# Altium schematic symbol library fpga.SchLib: 19 symbols (part 2 of 2)
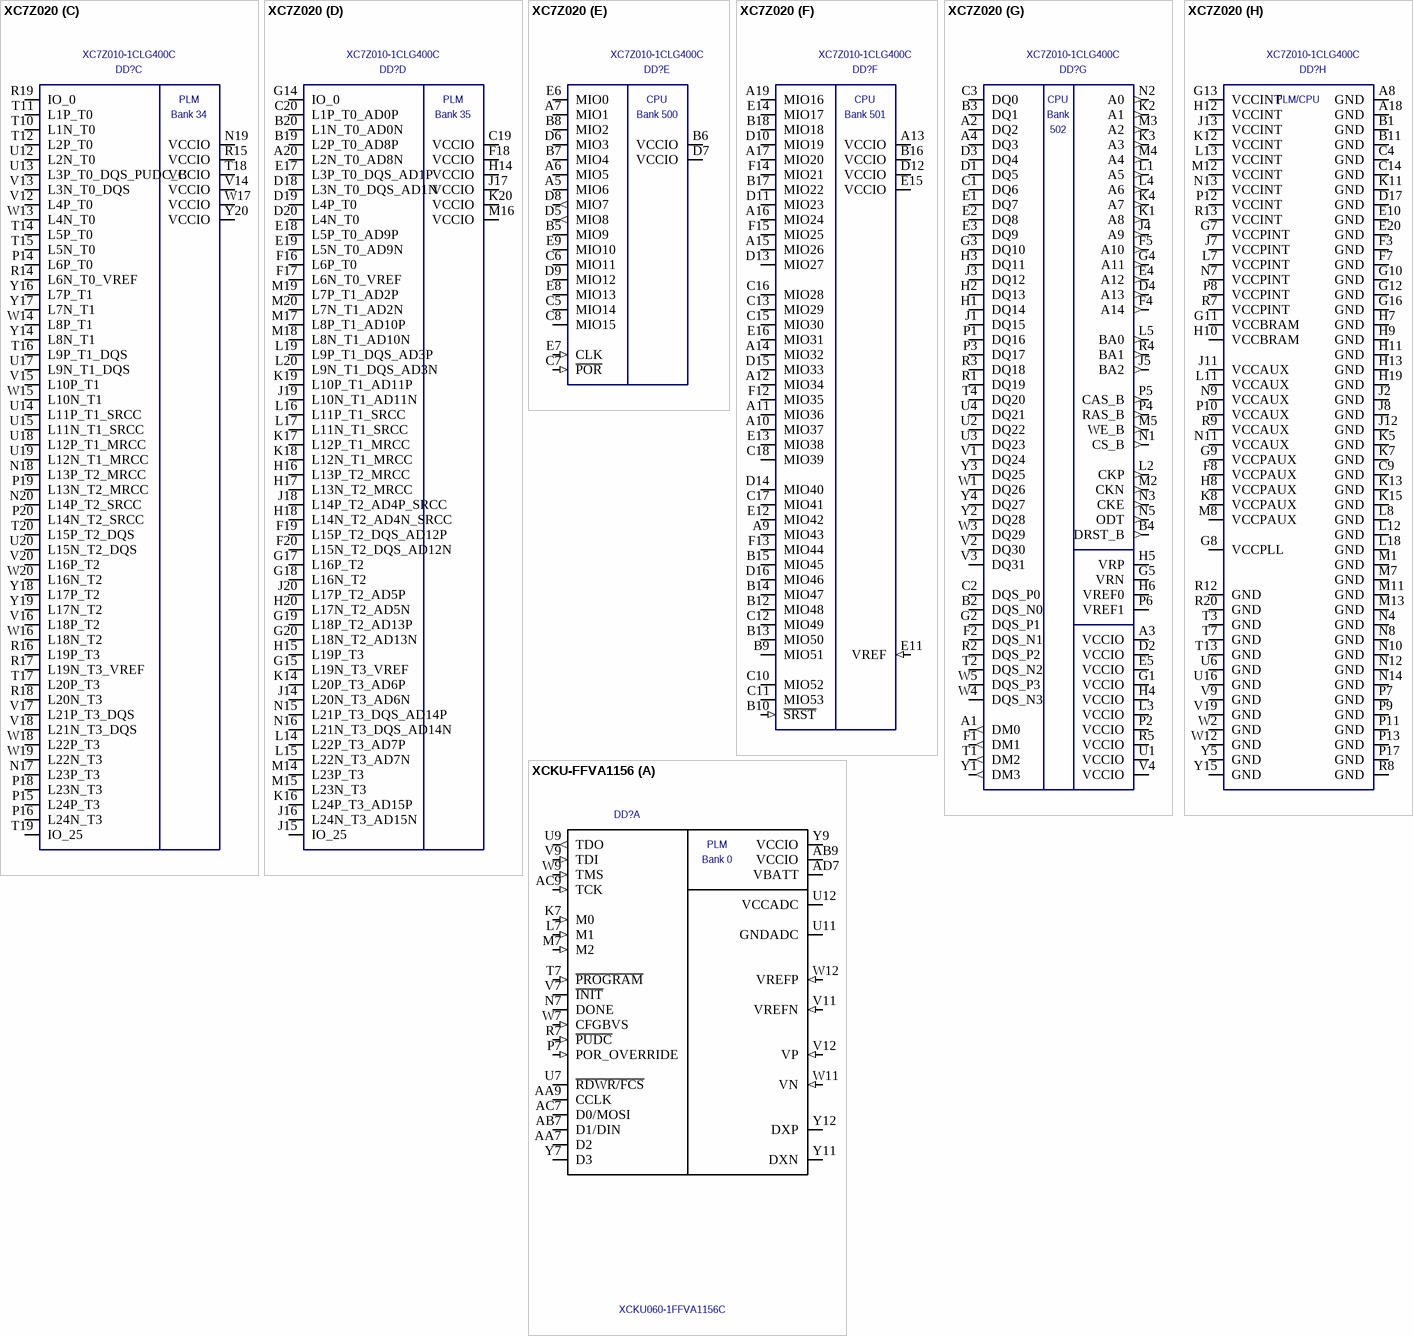
[diagram p10: symbols XC7Z020 to XCKU-FFVA1156]

## XC7Z020
designator DD?, comment XC7Z010-1CLG400C
Zync 7 SoC; Value: XC7Z010-1CLG400C
footprint UBGA-400 (0,8mm pitch)
part A pins: F6 TDO (out) "JTAG", F9 TCK (in) "JTAG", F10 RSVDGND (in) "TEST", F11 VCCBATT (power) "Backup power", G6 TDI (in) "JTAG", J6 TMS (in) "JTAG", J9 VCCADC (power) "ADC power", J10 GNDADC (power) "ADC power", K6 VCCIO (power) "CONFIG", K9 VP (in) "ADC input", K10 VREFN (in) "ADC reference", L6 ~{PROGRAM} (in) "CONFIG", L9 VREFP (in) "ADC reference", L10 VN (in) "ADC input", M6 CFGBVS (in) "CONFIG", M9 DXP "Temperature diode anode", M10 DXN "Temperature diode cathode", N6 RSVDVCC3 (in) "TEST", R6 RSVDVCC2 (in) "TEST", R10 ~{INIT} (io) "CONFIG", R11 DONE (io) "CONFIG", T6 RSVDVCC1 (in) "TEST"
part B pins: T5 L19P_T3 (io) "PL bank 13 is n/a for 7Z010 and 007", T8 VCCIO (power) "PL bank 13", T9 L12P_T1_MRCC (io) "PL bank 13 is n/a for 7Z010 and 007", U5 L19N_T3_VREF (io) "PL bank 13 is n/a for 7Z010 and 007", U7 L11P_T1_SRCC (io) "PL bank 13 is n/a for 7Z010 and 007", U8 L17N_T2 (io) "PL bank 13 is n/a for 7Z010 and 007", U9 L17P_T2 (io) "PL bank 13 is n/a for 7Z010 and 007", U10 L12N_T1_MRCC (io) "PL bank 13 is n/a for 7Z010 and 007", U11 VCCIO (power) "PL bank 13", V5 L6N_T0_VREF (io) "PL bank 13 is n/a for 7Z010 and 007", V6 L22P_T3 (io) "PL bank 13 is n/a for 7Z010 and 007", V7 L11N_T1_SRCC (io) "PL bank 13 is n/a for 7Z010 and 007", V8 L15P_T2_DQS (io) "PL bank 13 is n/a for 7Z010 and 007", V10 L21N_T3_DQS (io) "PL bank 13 is n/a for 7Z010 and 007", V11 L21P_T3_DQS (io) "PL bank 13 is n/a for 7Z010 and 007", W6 L22N_T3 (io) "PL bank 13 is n/a for 7Z010 and 007", W7 VCCIO (power) "PL bank 13", W8 L15N_T2_DQS (io) "PL bank 13 is n/a for 7Z010 and 007", W9 L16N_T2 (io) "PL bank 13 is n/a for 7Z010 and 007", W10 L16P_T2 (io) "PL bank 13 is n/a for 7Z010 and 007", W11 L18P_T2 (io) "PL bank 13 is n/a for 7Z010 and 007", Y6 L13N_T2_MRCC (io) "PL bank 13 is n/a for 7Z010 and 007", Y7 L13P_T2_MRCC (io) "PL bank 13 is n/a for 7Z010 and 007", Y8 L14N_T2_SRCC (io) "PL bank 13 is n/a for 7Z010 and 007", Y9 L14P_T2_SRCC (io) "PL bank 13 is n/a for 7Z010 and 007", Y10 VCCIO (power) "PL bank 13", Y11 L18N_T2 (io) "PL bank 13 is n/a for 7Z010 and 007", Y12 L20P_T3 (io) "PL bank 13 is n/a for 7Z010 and 007", Y13 L20N_T3 (io) "PL bank 13 is n/a for 7Z010 and 007"
part C pins: N17 L23P_T3 (io) "PL bank 34", N18 L13P_T2_MRCC (io) "PL bank 34", N19 VCCIO (power) "PL bank 34", N20 L14P_T2_SRCC (io) "PL bank 34", P14 L6P_T0 (io) "PL bank 34", P15 L24P_T3 (io) "PL bank 34", P16 L24N_T3 (io) "PL bank 34", P18 L23N_T3 (io) "PL bank 34", P19 L13N_T2_MRCC (io) "PL bank 34", P20 L14N_T2_SRCC (io) "PL bank 34", R14 L6N_T0_VREF (io) "PL bank 34", R15 VCCIO (power) "PL bank 34", R16 L19P_T3 (io) "PL bank 34", R17 L19N_T3_VREF (io) "PL bank 34", R18 L20N_T3 (io) "PL bank 34", R19 IO_0 (io) "PL bank 34", T10 L1N_T0 (io) "PL bank 34", T11 L1P_T0 (io) "PL bank 34", T12 L2P_T0 (io) "PL bank 34", T14 L5P_T0 (io) "PL bank 34", T15 L5N_T0 (io) "PL bank 34", T16 L9P_T1_DQS (io) "PL bank 34", T17 L20P_T3 (io) "PL bank 34", T18 VCCIO (power) "PL bank 34", T19 IO_25 (io) "PL bank 34", T20 L15P_T2_DQS (io) "PL bank 34", U12 L2N_T0 (io) "PL bank 34", U13 L3P_T0_DQS_PUDC_B (io) "PL bank 34", U14 L11P_T1_SRCC (io) "PL bank 34", U15 L11N_T1_SRCC (io) "PL bank 34", U17 L9N_T1_DQS (io) "PL bank 34", U18 L12P_T1_MRCC (io) "PL bank 34", U19 L12N_T1_MRCC (io) "PL bank 34", U20 L15N_T2_DQS (io) "PL bank 34", V12 L4P_T0 (io) "PL bank 34", V13 L3N_T0_DQS (io) "PL bank 34", V14 VCCIO (power) "PL bank 34", V15 L10P_T1 (io) "PL bank 34", V16 L18P_T2 (io) "PL bank 34", V17 L21P_T3_DQS (io) "PL bank 34", V18 L21N_T3_DQS (io) "PL bank 34", V20 L16P_T2 (io) "PL bank 34", W13 L4N_T0 (io) "PL bank 34", W14 L8P_T1 (io) "PL bank 34", W15 L10N_T1 (io) "PL bank 34", W16 L18N_T2 (io) "PL bank 34", W17 VCCIO (power) "PL bank 34", W18 L22P_T3 (io) "PL bank 34", W19 L22N_T3 (io) "PL bank 34", W20 L16N_T2 (io) "PL bank 34", Y14 L8N_T1 (io) "PL bank 34", Y16 L7P_T1 (io) "PL bank 34", Y17 L7N_T1 (io) "PL bank 34", Y18 L17P_T2 (io) "PL bank 34", Y19 L17N_T2 (io) "PL bank 34", Y20 VCCIO (power) "PL bank 34"
part D pins: A20 L2N_T0_AD8N (io) "PL bank 35", B19 L2P_T0_AD8P (io) "PL bank 35", B20 L1N_T0_AD0N (io) "PL bank 35", C19 VCCIO (power) "PL bank 35", C20 L1P_T0_AD0P (io) "PL bank 35", D18 L3N_T0_DQS_AD1N (io) "PL bank 35", D19 L4P_T0 (io) "PL bank 35", D20 L4N_T0 (io) "PL bank 35", E17 L3P_T0_DQS_AD1P (io) "PL bank 35", E18 L5P_T0_AD9P (io) "PL bank 35", E19 L5N_T0_AD9N (io) "PL bank 35", F16 L6P_T0 (io) "PL bank 35", F17 L6N_T0_VREF (io) "PL bank 35", F18 VCCIO (power) "PL bank 35", F19 L15P_T2_DQS_AD12P (io) "PL bank 35", F20 L15N_T2_DQS_AD12N (io) "PL bank 35", G14 IO_0 (io) "PL bank 35", G15 L19N_T3_VREF (io) "PL bank 35", G17 L16P_T2 (io) "PL bank 35", G18 L16N_T2 (io) "PL bank 35", G19 L18P_T2_AD13P (io) "PL bank 35", G20 L18N_T2_AD13N (io) "PL bank 35", H14 VCCIO (power) "PL bank 35", H15 L19P_T3 (io) "PL bank 35", H16 L13P_T2_MRCC (io) "PL bank 35", H17 L13N_T2_MRCC (io) "PL bank 35", H18 L14N_T2_AD4N_SRCC (io) "PL bank 35", H20 L17N_T2_AD5N (io) "PL bank 35", J14 L20N_T3_AD6N (io) "PL bank 35", J15 IO_25 (io) "PL bank 35", J16 L24N_T3_AD15N (io) "PL bank 35", J17 VCCIO (power) "PL bank 35", J18 L14P_T2_AD4P_SRCC (io) "PL bank 35", J19 L10N_T1_AD11N (io) "PL bank 35", J20 L17P_T2_AD5P (io) "PL bank 35", K14 L20P_T3_AD6P (io) "PL bank 35", K16 L24P_T3_AD15P (io) "PL bank 35", K17 L12P_T1_MRCC (io) "PL bank 35", K18 L12N_T1_MRCC (io) "PL bank 35", K19 L10P_T1_AD11P (io) "PL bank 35", K20 VCCIO (power) "PL bank 35", L14 L22P_T3_AD7P (io) "PL bank 35", L15 L22N_T3_AD7N (io) "PL bank 35", L16 L11P_T1_SRCC (io) "PL bank 35", L17 L11N_T1_SRCC (io) "PL bank 35", L19 L9P_T1_DQS_AD3P (io) "PL bank 35", L20 L9N_T1_DQS_AD3N (io) "PL bank 35", M14 L23P_T3 (io) "PL bank 35", M15 L23N_T3 (io) "PL bank 35", M16 VCCIO (power) "PL bank 35", M17 L8P_T1_AD10P (io) "PL bank 35", M18 L8N_T1_AD10N (io) "PL bank 35", M19 L7P_T1_AD2P (io) "PL bank 35", M20 L7N_T1_AD2N (io) "PL bank 35", N15 L21P_T3_DQS_AD14P (io) "PL bank 35", N16 L21N_T3_DQS_AD14N (io) "PL bank 35"
part E pins: A5 MIO6 (io) "PS bank 500", A6 MIO5 (io) "PS bank 500", A7 MIO1 (io) "PS bank 500", B5 MIO9 (io) "PS bank 500", B6 VCCIO (power) "PS bank 500", B7 MIO4 (io) "PS bank 500", B8 MIO2 (io) "PS bank 500", C5 MIO14 (io) "PS bank 500", C6 MIO11 (io) "PS bank 500", C7 ~{POR} (in) "PS bank 500", C8 MIO15 (io) "PS bank 500", D5 MIO8 (out) "PS bank 500", D6 MIO3 (io) "PS bank 500", D7 VCCIO (power) "PS bank 500", D8 MIO7 (out) "PS bank 500", D9 MIO12 (io) "PS bank 500", E6 MIO0 (io) "PS bank 500", E7 CLK (in) "PS bank 500", E8 MIO13 (io) "PS bank 500", E9 MIO10 (io) "PS bank 500"
part F pins: A9 MIO43 (io) "PS bank 501", A10 MIO37 (io) "PS bank 501", A11 MIO36 (io) "PS bank 501", A12 MIO34 (io) "PS bank 501", A13 VCCIO (power) "PS bank 501", A14 MIO32 (io) "PS bank 501", A15 MIO26 (io) "PS bank 501", A16 MIO24 (io) "PS bank 501", A17 MIO20 (io) "PS bank 501", A19 MIO16 (io) "PS bank 501", B9 MIO51 (io) "PS bank 501", B10 ~{SRST} (in) "PS bank 501", B12 MIO48 (io) "PS bank 501", B13 MIO50 (io) "PS bank 501", B14 MIO47 (io) "PS bank 501", B15 MIO45 (io) "PS bank 501", B16 VCCIO (power) "PS bank 501", B17 MIO22 (io) "PS bank 501", B18 MIO18 (io) "PS bank 501", C10 MIO52 (io) "PS bank 501", C11 MIO53 (io) "PS bank 501", C12 MIO49 (io) "PS bank 501", C13 MIO29 (io) "PS bank 501", C15 MIO30 (io) "PS bank 501", C16 MIO28 (io) "PS bank 501", C17 MIO41 (io) "PS bank 501", C18 MIO39 (io) "PS bank 501", D10 MIO19 (io) "PS bank 501", D11 MIO23 (io) "PS bank 501", D12 VCCIO (power) "PS bank 501", D13 MIO27 (io) "PS bank 501", D14 MIO40 (io) "PS bank 501", D15 MIO33 (io) "PS bank 501", D16 MIO46 (io) "PS bank 501", E11 VREF (in) "PS bank 501", E12 MIO42 (io) "PS bank 501", E13 MIO38 (io) "PS bank 501", E14 MIO17 (io) "PS bank 501", E15 VCCIO (power) "PS bank 501", E16 MIO31 (io) "PS bank 501", F12 MIO35 (io) "PS bank 501", F13 MIO44 (io) "PS bank 501", F14 MIO21 (io) "PS bank 501", F15 MIO25 (io) "PS bank 501"
part G pins: A1 DM0 (out) "PS bank 502", A2 DQ2 (io) "PS bank 502", A3 VCCIO (power) "PS bank 502", A4 DQ3 (io) "PS bank 502", B2 DQS_N0 (io) "PS bank 502", B3 DQ1 (io) "PS bank 502", B4 DRST_B (out) "PS bank 502", C1 DQ6 (io) "PS bank 502", C2 DQS_P0 (io) "PS bank 502", C3 DQ0 (io) "PS bank 502", D1 DQ5 (io) "PS bank 502", D2 VCCIO (power) "PS bank 502", D3 DQ4 (io) "PS bank 502", D4 A13 (out) "PS bank 502", E1 DQ7 (io) "PS bank 502", E2 DQ8 (io) "PS bank 502", E3 DQ9 (io) "PS bank 502", E4 A12 (out) "PS bank 502", E5 VCCIO (power) "PS bank 502", F1 DM1 (out) "PS bank 502", F2 DQS_N1 (io) "PS bank 502", F4 A14 (out) "PS bank 502", F5 A10 (out) "PS bank 502", G1 VCCIO (power) "PS bank 502", G2 DQS_P1 (io) "PS bank 502", G3 DQ10 (io) "PS bank 502", G4 A11 (out) "PS bank 502", G5 VRN "PS bank 502", H1 DQ14 (io) "PS bank 502", H2 DQ13 (io) "PS bank 502", H3 DQ11 (io) "PS bank 502", H4 VCCIO (power) "PS bank 502", H5 VRP "PS bank 502", H6 VREF0 "PS bank 502", J1 DQ15 (io) "PS bank 502", J3 DQ12 (io) "PS bank 502", J4 A9 (out) "PS bank 502", J5 BA2 (out) "PS bank 502", K1 A8 (out) "PS bank 502", K2 A1 (out) "PS bank 502", K3 A3 (out) "PS bank 502", K4 A7 (out) "PS bank 502", L1 A5 (out) "PS bank 502", L2 CKP (out) "PS bank 502", L3 VCCIO (power) "PS bank 502", L4 A6 (out) "PS bank 502", L5 BA0 (out) "PS bank 502", M2 CKN (out) "PS bank 502", M3 A2 (out) "PS bank 502", M4 A4 (out) "PS bank 502", M5 WE_B (out) "PS bank 502", N1 CS_B (out) "PS bank 502", N2 A0 (out) "PS bank 502", N3 CKE (out) "PS bank 502", N5 ODT (out) "PS bank 502", P1 DQ16 (io) "PS bank 502", P2 VCCIO (power) "PS bank 502", P3 DQ17 (io) "PS bank 502", P4 RAS_B (out) "PS bank 502", P5 CAS_B (out) "PS bank 502", P6 VREF1 "PS bank 502", R1 DQ19 (io) "PS bank 502", R2 DQS_P2 (io) "PS bank 502", R3 DQ18 (io) "PS bank 502", R4 BA1 (out) "PS bank 502", R5 VCCIO (power) "PS bank 502", T1 DM2 (out) "PS bank 502", T2 DQS_N2 (io) "PS bank 502", T4 DQ20 (io) "PS bank 502", U1 VCCIO (power) "PS bank 502", U2 DQ22 (io) "PS bank 502", U3 DQ23 (io) "PS bank 502", U4 DQ21 (io) "PS bank 502", V1 DQ24 (io) "PS bank 502", V2 DQ30 (io) "PS bank 502", V3 DQ31 (io) "PS bank 502", V4 VCCIO (power) "PS bank 502", W1 DQ26 (io) "PS bank 502", W3 DQ29 (io) "PS bank 502", W4 DQS_N3 (io) "PS bank 502", W5 DQS_P3 (io) "PS bank 502", Y1 DM3 (out) "PS bank 502", Y2 DQ28 (io) "PS bank 502", Y3 DQ25 (io) "PS bank 502", Y4 DQ27 (io) "PS bank 502"
part H pins: A8 GND (power) "Digital ground", A18 GND (power) "Digital ground", B1 GND (power) "Digital ground", B11 GND (power) "Digital ground", C4 GND (power) "Digital ground", C9 GND (power) "Digital ground", C14 GND (power) "Digital ground", D17 GND (power) "Digital ground", E10 GND (power) "Digital ground", E20 GND (power) "Digital ground", F3 GND (power) "Digital ground", F7 GND (power) "Digital ground", F8 VCCPAUX (power) "1V8 IO power", G7 VCCPINT (power) "1V0 core power", G8 VCCPLL (power) "1V8 PLL analog power", G9 VCCPAUX (power) "1V8 IO power", G10 GND (power) "Digital ground", G11 VCCBRAM (power) "1V0 core power", G12 GND (power) "Digital ground", G13 VCCINT (power) "1V0 core power", G16 GND (power) "Digital ground", H7 GND (power) "Digital ground", H8 VCCPAUX (power) "1V8 IO power", H9 GND (power) "Digital ground", H10 VCCBRAM (power) "1V0 core power", H11 GND (power) "Digital ground", H12 VCCINT (power) "1V0 core power", H13 GND (power) "Digital ground", H19 GND (power) "Digital ground", J2 GND (power) "Digital ground", J7 VCCPINT (power) "1V0 core power", J8 GND (power) "Digital ground", J11 VCCAUX (power) "1V8 IO power", J12 GND (power) "Digital ground", J13 VCCINT (power) "1V0 core power", K5 GND (power) "Digital ground", K7 GND (power) "Digital ground", K8 VCCPAUX (power) "1V8 IO power", K11 GND (power) "Digital ground", K12 VCCINT (power) "1V0 core power", K13 GND (power) "Digital ground", K15 GND (power) "Digital ground", L7 VCCPINT (power) "1V0 core power", L8 GND (power) "Digital ground", L11 VCCAUX (power) "1V8 IO power", L12 GND (power) "Digital ground", L13 VCCINT (power) "1V0 core power", L18 GND (power) "Digital ground", M1 GND (power) "Digital ground", M7 GND (power) "Digital ground", M8 VCCPAUX (power) "1V8 IO power", M11 GND (power) "Digital ground", M12 VCCINT (power) "1V0 core power", M13 GND (power) "Digital ground", N4 GND (power) "Digital ground", N7 VCCPINT (power) "1V0 core power", N8 GND (power) "Digital ground", N9 VCCAUX (power) "1V8 IO power", N10 GND (power) "Digital ground", N11 VCCAUX (power) "1V8 IO power", N12 GND (power) "Digital ground", N13 VCCINT (power) "1V0 core power", N14 GND (power) "Digital ground", P7 GND (power) "Digital ground", P8 VCCPINT (power) "1V0 core power", P9 GND (power) "Digital ground", P10 VCCAUX (power) "1V8 IO power", P11 GND (power) "Digital ground", P12 VCCINT (power) "1V0 core power", P13 GND (power) "Digital ground", P17 GND (power) "Digital ground", R7 VCCPINT (power) "1V0 core power", R8 GND (power) "Digital ground", R9 VCCAUX (power) "1V8 IO power", R12 GND (power) "Digital ground", R13 VCCINT (power) "1V0 core power", R20 GND (power) "Digital ground", T3 GND (power) "Digital ground", T7 GND (power) "Digital ground", T13 GND (power) "Digital ground", U6 GND (power) "Digital ground", U16 GND (power) "Digital ground", V9 GND (power) "Digital ground", V19 GND (power) "Digital ground", W2 GND (power) "Digital ground", W12 GND (power) "Digital ground", Y5 GND (power) "Digital ground", Y15 GND (power) "Digital ground"
part A text: PLM; Bank 0
part B text: PLM; Bank 13
part C text: PLM; Bank 34
part D text: PLM; Bank 35
part E text: CPU; Bank 500
part F text: CPU; Bank 501
part G text: CPU; Bank; 502
part H text: PLM/CPU

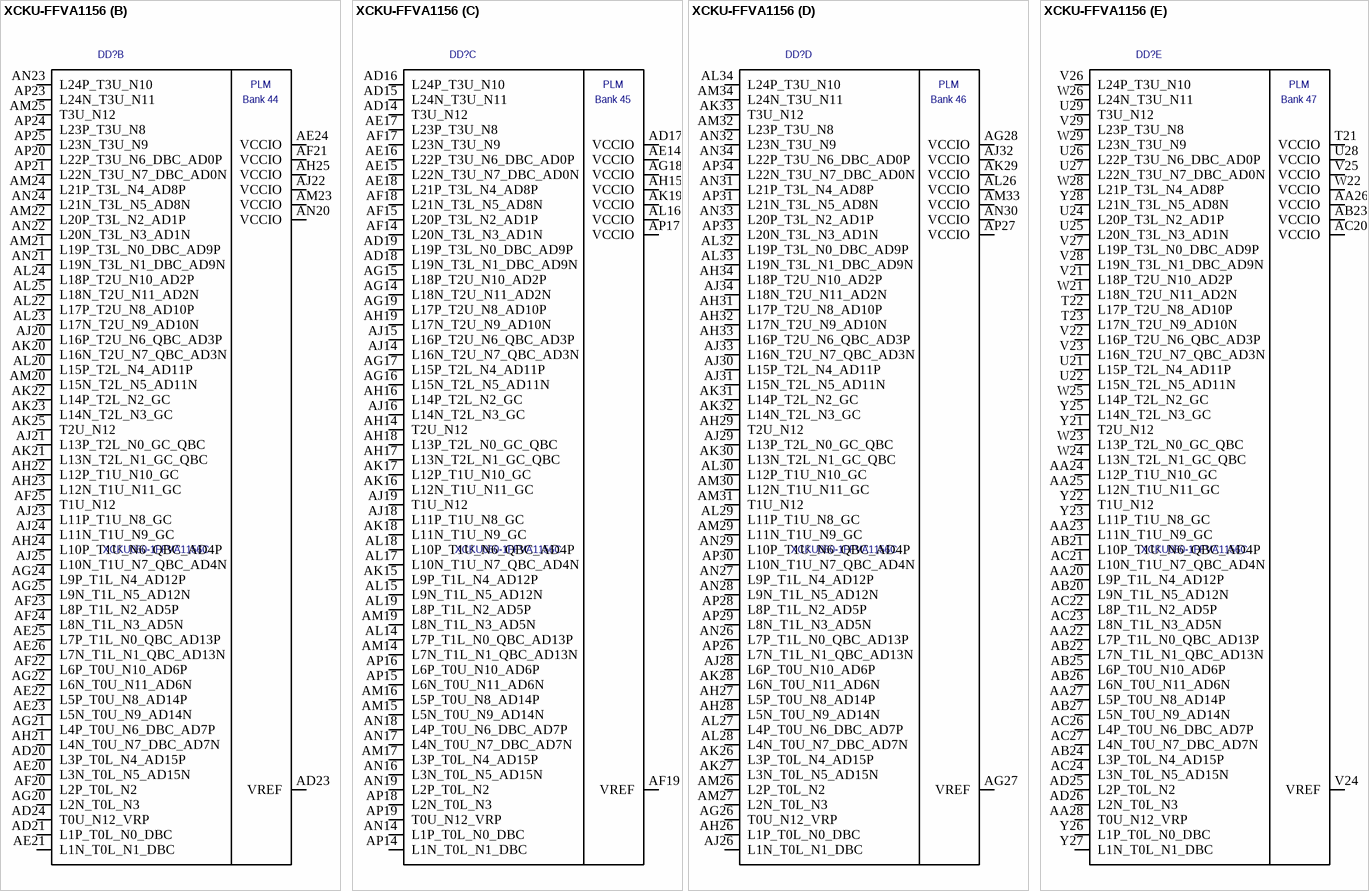
[diagram p6: symbol XCKU-FFVA1156]

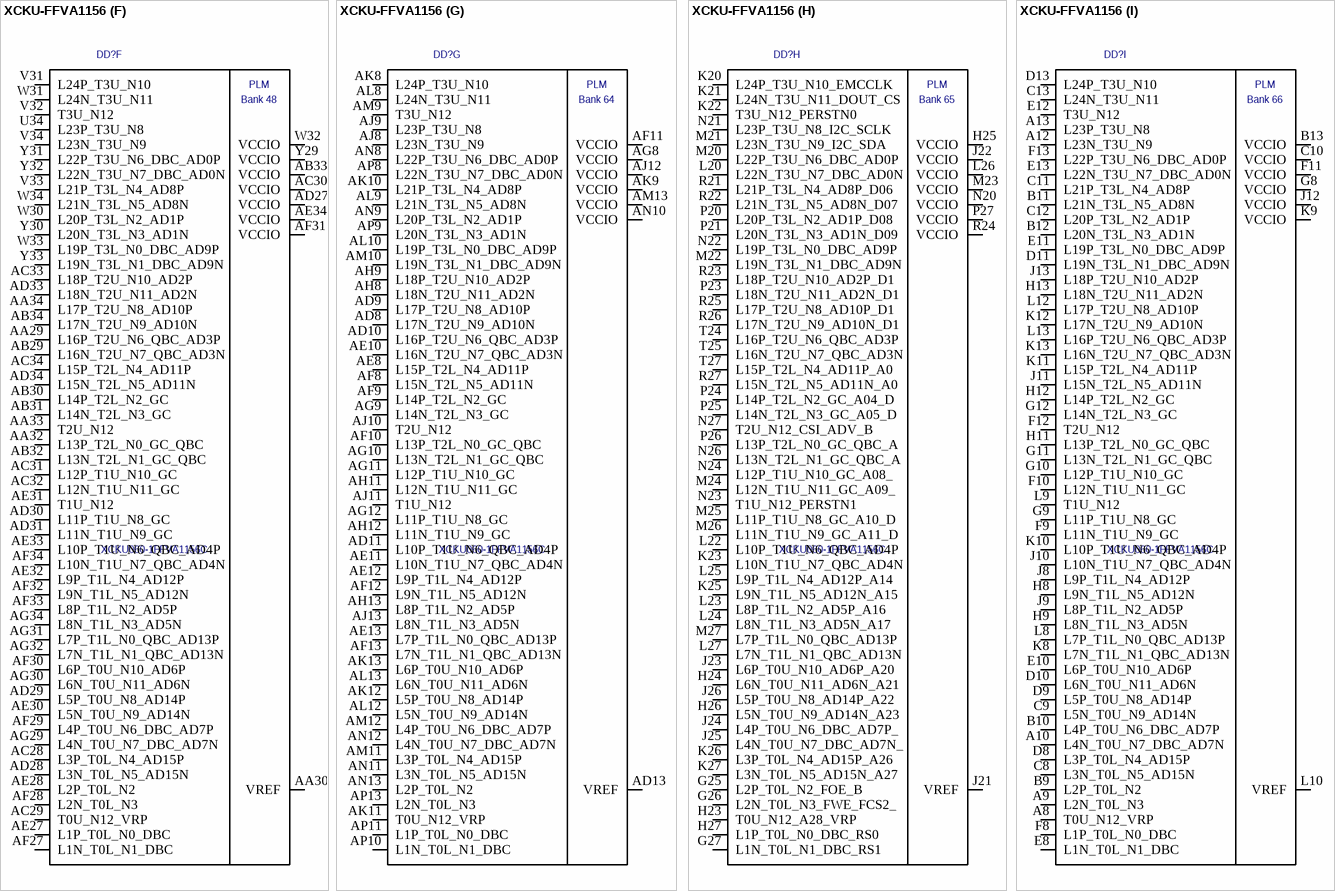
[diagram p7: symbol XCKU-FFVA1156]

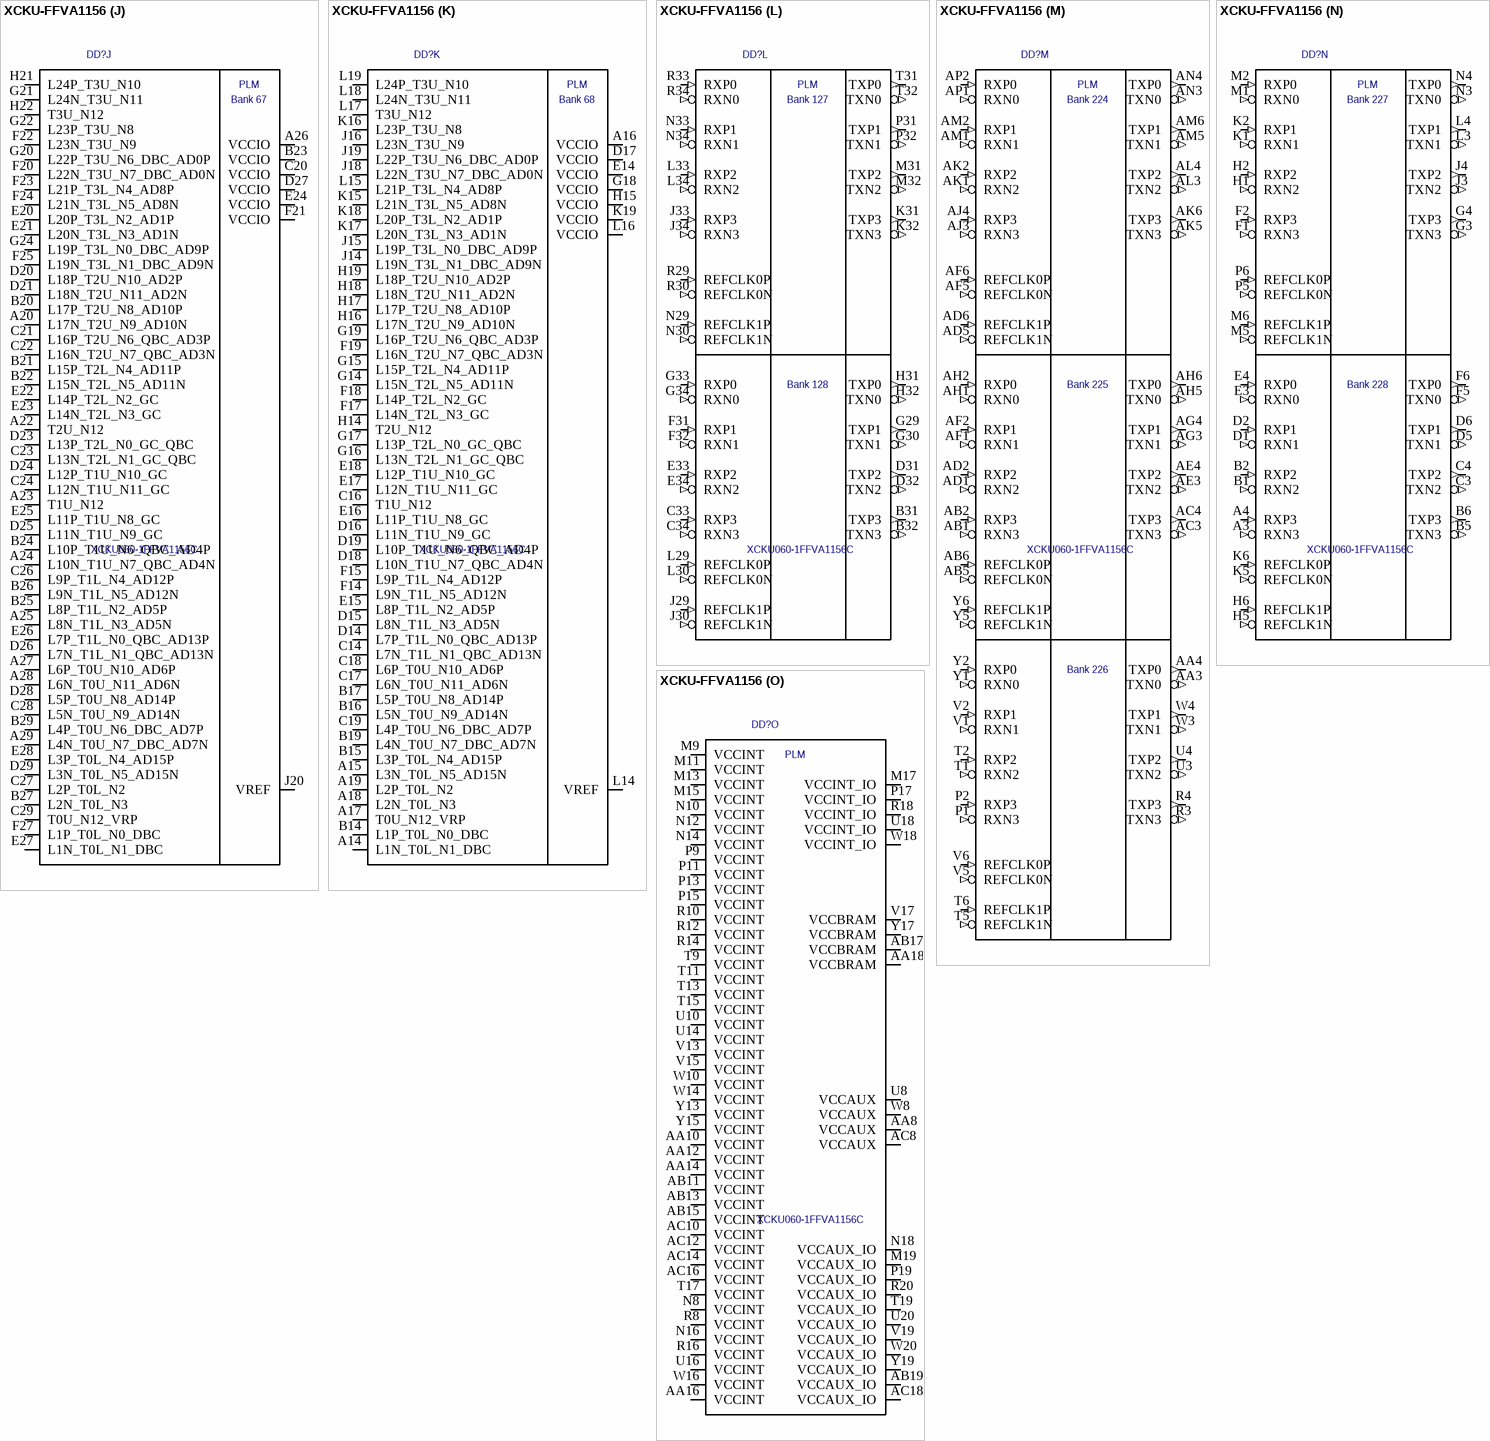
[diagram p8: symbol XCKU-FFVA1156]

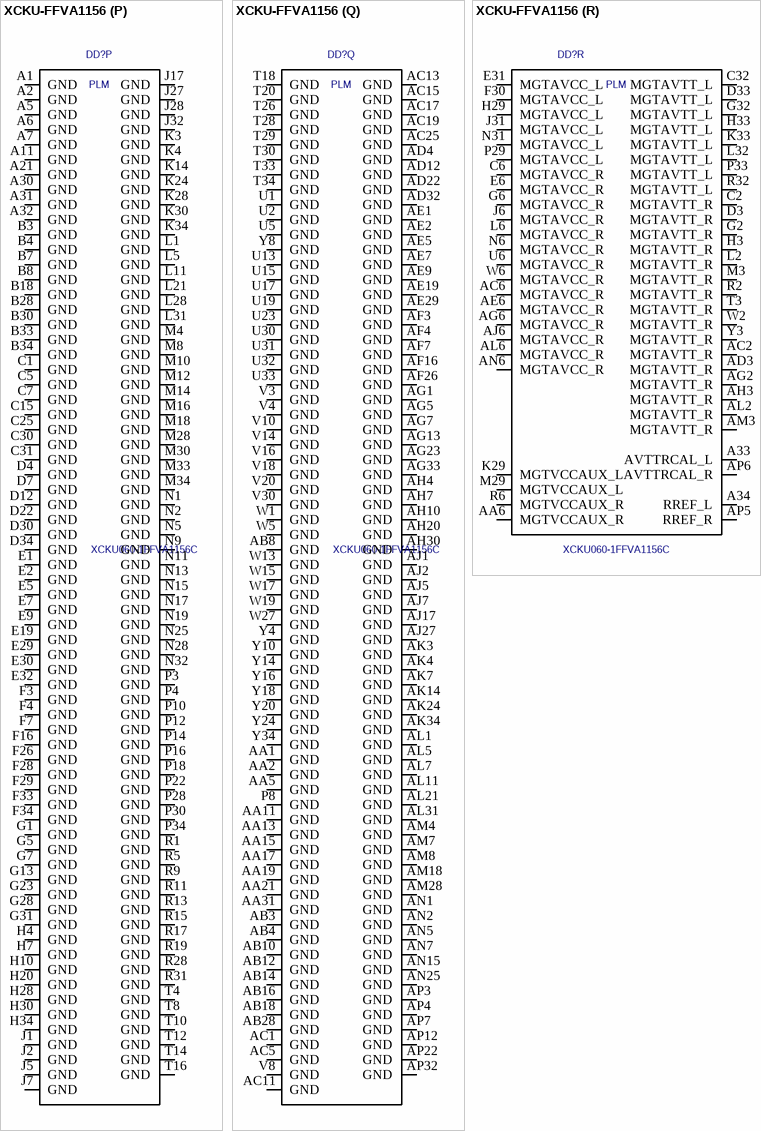
[diagram p9: symbol XCKU-FFVA1156]

## XCKU-FFVA1156
designator DD?, comment XCKU060-1FFVA1156C
Value: XCKU060-1FFVA1156C
footprint FBGA-1156
part A pins: AA7 D2 (io), AA9 CCLK (io), AB7 D1/DIN (io), AB9 VCCIO (power), AC7 D0/MOSI (io), AC9 TCK (in), AD7 VBATT (power), K7 M0 (in), L7 M1 (in), M7 M2 (in), N7 DONE (io), P7 POR_OVERRIDE (in), R7 ~{PUDC} (in), T7 ~{PROGRAM} (in), U7 ~{RDWR/FCS} (io), U9 TDO (out), U11 GNDADC (power), U12 VCCADC (power), V7 ~{INIT} (io), V9 TDI (in), V11 VREFN (in), V12 VP (in), W7 CFGBVS (in), W9 TMS (in), W11 VN (in), W12 VREFP (in), Y7 D3 (io), Y9 VCCIO (power), Y11 DXN, Y12 DXP
part B pins: AD20 L3P_T0L_N4_AD15P (io), AD21 L1P_T0L_N0_DBC (io), AD23 VREF, AD24 T0U_N12_VRP (io), AE20 L3N_T0L_N5_AD15N (io), AE21 L1N_T0L_N1_DBC (io), AE22 L5P_T0U_N8_AD14P (io), AE23 L5N_T0U_N9_AD14N (io), AE24 VCCIO (power), AE25 L7P_T1L_N0_QBC_AD13P (io), AE26 L7N_T1L_N1_QBC_AD13N (io), AF20 L2P_T0L_N2 (io), AF21 VCCIO (power), AF22 L6P_T0U_N10_AD6P (io), AF23 L8P_T1L_N2_AD5P (io), AF24 L8N_T1L_N3_AD5N (io), AF25 T1U_N12 (io), AG20 L2N_T0L_N3 (io), AG21 L4P_T0U_N6_DBC_AD7P (io), AG22 L6N_T0U_N11_AD6N (io), AG24 L9P_T1L_N4_AD12P (io), AG25 L9N_T1L_N5_AD12N (io), AH21 L4N_T0U_N7_DBC_AD7N (io), AH22 L12P_T1U_N10_GC (io), AH23 L12N_T1U_N11_GC (io), AH24 L10P_T1U_N6_QBC_AD4P (io), AH25 VCCIO (power), AJ20 L16P_T2U_N6_QBC_AD3P (io), AJ21 L13P_T2L_N0_GC_QBC (io), AJ22 VCCIO (power), AJ23 L11P_T1U_N8_GC (io), AJ24 L11N_T1U_N9_GC (io), AJ25 L10N_T1U_N7_QBC_AD4N (io), AK20 L16N_T2U_N7_QBC_AD3N (io), AK21 L13N_T2L_N1_GC_QBC (io), AK22 L14P_T2L_N2_GC (io), AK23 L14N_T2L_N3_GC (io), AK25 T2U_N12 (io), AL20 L15P_T2L_N4_AD11P (io), AL22 L17P_T2U_N8_AD10P (io), AL23 L17N_T2U_N9_AD10N (io), AL24 L18P_T2U_N10_AD2P (io), AL25 L18N_T2U_N11_AD2N (io), AM20 L15N_T2L_N5_AD11N (io), AM21 L19P_T3L_N0_DBC_AD9P (io), AM22 L20P_T3L_N2_AD1P (io), AM23 VCCIO (power), AM24 L21P_T3L_N4_AD8P (io), AM25 T3U_N12 (io), AN20 VCCIO (power), AN21 L19N_T3L_N1_DBC_AD9N (io), AN22 L20N_T3L_N3_AD1N (io), AN23 L24P_T3U_N10 (io), AN24 L21N_T3L_N5_AD8N (io), AP20 L22P_T3U_N6_DBC_AD0P (io), AP21 L22N_T3U_N7_DBC_AD0N (io), AP23 L24N_T3U_N11 (io), AP24 L23P_T3U_N8 (io), AP25 L23N_T3U_N9 (io)
part C pins: AD14 T3U_N12 (io), AD15 L24N_T3U_N11 (io), AD16 L24P_T3U_N10 (io), AD17 VCCIO (power), AD18 L19N_T3L_N1_DBC_AD9N (io), AD19 L19P_T3L_N0_DBC_AD9P (io), AE14 VCCIO (power), AE15 L22N_T3U_N7_DBC_AD0N (io), AE16 L22P_T3U_N6_DBC_AD0P (io), AE17 L23P_T3U_N8 (io), AE18 L21P_T3L_N4_AD8P (io), AF14 L20N_T3L_N3_AD1N (io), AF15 L20P_T3L_N2_AD1P (io), AF17 L23N_T3U_N9 (io), AF18 L21N_T3L_N5_AD8N (io), AF19 VREF, AG14 L18N_T2U_N11_AD2N (io), AG15 L18P_T2U_N10_AD2P (io), AG16 L15N_T2L_N5_AD11N (io), AG17 L15P_T2L_N4_AD11P (io), AG18 VCCIO (power), AG19 L17P_T2U_N8_AD10P (io), AH14 T2U_N12 (io), AH15 VCCIO (power), AH16 L14P_T2L_N2_GC (io), AH17 L13N_T2L_N1_GC_QBC (io), AH18 L13P_T2L_N0_GC_QBC (io), AH19 L17N_T2U_N9_AD10N (io), AJ14 L16N_T2U_N7_QBC_AD3N (io), AJ15 L16P_T2U_N6_QBC_AD3P (io), AJ16 L14N_T2L_N3_GC (io), AJ18 L11P_T1U_N8_GC (io), AJ19 T1U_N12 (io), AK15 L9P_T1L_N4_AD12P (io), AK16 L12N_T1U_N11_GC (io), AK17 L12P_T1U_N10_GC (io), AK18 L11N_T1U_N9_GC (io), AK19 VCCIO (power), AL14 L7P_T1L_N0_QBC_AD13P (io), AL15 L9N_T1L_N5_AD12N (io), AL16 VCCIO (power), AL17 L10N_T1U_N7_QBC_AD4N (io), AL18 L10P_T1U_N6_QBC_AD4P (io), AL19 L8P_T1L_N2_AD5P (io), AM14 L7N_T1L_N1_QBC_AD13N (io), AM15 L5N_T0U_N9_AD14N (io), AM16 L5P_T0U_N8_AD14P (io), AM17 L3P_T0L_N4_AD15P (io), AM19 L8N_T1L_N3_AD5N (io), AN14 L1P_T0L_N0_DBC (io), AN16 L3N_T0L_N5_AD15N (io), AN17 L4N_T0U_N7_DBC_AD7N (io), AN18 L4P_T0U_N6_DBC_AD7P (io), AN19 L2P_T0L_N2 (io), AP14 L1N_T0L_N1_DBC (io), AP15 L6N_T0U_N11_AD6N (io), AP16 L6P_T0U_N10_AD6P (io), AP17 VCCIO (power), AP18 L2N_T0L_N3 (io), AP19 T0U_N12_VRP (io)
part D pins: AG26 T0U_N12_VRP (io), AG27 VREF, AG28 VCCIO (power), AH26 L1P_T0L_N0_DBC (io), AH27 L5P_T0U_N8_AD14P (io), AH28 L5N_T0U_N9_AD14N (io), AH29 T2U_N12 (io), AH31 L17P_T2U_N8_AD10P (io), AH32 L17N_T2U_N9_AD10N (io), AH33 L16P_T2U_N6_QBC_AD3P (io), AH34 L18P_T2U_N10_AD2P (io), AJ26 L1N_T0L_N1_DBC (io), AJ28 L6P_T0U_N10_AD6P (io), AJ29 L13P_T2L_N0_GC_QBC (io), AJ30 L15P_T2L_N4_AD11P (io), AJ31 L15N_T2L_N5_AD11N (io), AJ32 VCCIO (power), AJ33 L16N_T2U_N7_QBC_AD3N (io), AJ34 L18N_T2U_N11_AD2N (io), AK26 L3P_T0L_N4_AD15P (io), AK27 L3N_T0L_N5_AD15N (io), AK28 L6N_T0U_N11_AD6N (io), AK29 VCCIO (power), AK30 L13N_T2L_N1_GC_QBC (io), AK31 L14P_T2L_N2_GC (io), AK32 L14N_T2L_N3_GC (io), AK33 T3U_N12 (io), AL26 VCCIO (power), AL27 L4P_T0U_N6_DBC_AD7P (io), AL28 L4N_T0U_N7_DBC_AD7N (io), AL29 L11P_T1U_N8_GC (io), AL30 L12P_T1U_N10_GC (io), AL32 L19P_T3L_N0_DBC_AD9P (io), AL33 L19N_T3L_N1_DBC_AD9N (io), AL34 L24P_T3U_N10 (io), AM26 L2P_T0L_N2 (io), AM27 L2N_T0L_N3 (io), AM29 L11N_T1U_N9_GC (io), AM30 L12N_T1U_N11_GC (io), AM31 T1U_N12 (io), AM32 L23P_T3U_N8 (io), AM33 VCCIO (power), AM34 L24N_T3U_N11 (io), AN26 L7P_T1L_N0_QBC_AD13P (io), AN27 L9P_T1L_N4_AD12P (io), AN28 L9N_T1L_N5_AD12N (io), AN29 L10P_T1U_N6_QBC_AD4P (io), AN30 VCCIO (power), AN31 L21P_T3L_N4_AD8P (io), AN32 L23N_T3U_N9 (io), AN33 L20P_T3L_N2_AD1P (io), AN34 L22P_T3U_N6_DBC_AD0P (io), AP26 L7N_T1L_N1_QBC_AD13N (io), AP27 VCCIO (power), AP28 L8P_T1L_N2_AD5P (io), AP29 L8N_T1L_N3_AD5N (io), AP30 L10N_T1U_N7_QBC_AD4N (io), AP31 L21N_T3L_N5_AD8N (io), AP33 L20N_T3L_N3_AD1N (io), AP34 L22N_T3U_N7_DBC_AD0N (io)
part E pins: AA20 L9P_T1L_N4_AD12P (io), AA22 L7P_T1L_N0_QBC_AD13P (io), AA23 L11N_T1U_N9_GC (io), AA24 L12P_T1U_N10_GC (io), AA25 L12N_T1U_N11_GC (io), AA26 VCCIO (power), AA27 L5P_T0U_N8_AD14P (io), AA28 T0U_N12_VRP (io), AB20 L9N_T1L_N5_AD12N (io), AB21 L10P_T1U_N6_QBC_AD4P (io), AB22 L7N_T1L_N1_QBC_AD13N (io), AB23 VCCIO (power), AB24 L3P_T0L_N4_AD15P (io), AB25 L6P_T0U_N10_AD6P (io), AB26 L6N_T0U_N11_AD6N (io), AB27 L5N_T0U_N9_AD14N (io), AC20 VCCIO (power), AC21 L10N_T1U_N7_QBC_AD4N (io), AC22 L8P_T1L_N2_AD5P (io), AC23 L8N_T1L_N3_AD5N (io), AC24 L3N_T0L_N5_AD15N (io), AC26 L4P_T0U_N6_DBC_AD7P (io), AC27 L4N_T0U_N7_DBC_AD7N (io), AD25 L2P_T0L_N2 (io), AD26 L2N_T0L_N3 (io), T21 VCCIO (power), T22 L17P_T2U_N8_AD10P (io), T23 L17N_T2U_N9_AD10N (io), U21 L15P_T2L_N4_AD11P (io), U22 L15N_T2L_N5_AD11N (io), U24 L20P_T3L_N2_AD1P (io), U25 L20N_T3L_N3_AD1N (io), U26 L22P_T3U_N6_DBC_AD0P (io), U27 L22N_T3U_N7_DBC_AD0N (io), U28 VCCIO (power), U29 T3U_N12 (io), V21 L18P_T2U_N10_AD2P (io), V22 L16P_T2U_N6_QBC_AD3P (io), V23 L16N_T2U_N7_QBC_AD3N (io), V24 VREF, V25 VCCIO (power), V26 L24P_T3U_N10 (io), V27 L19P_T3L_N0_DBC_AD9P (io), V28 L19N_T3L_N1_DBC_AD9N (io), V29 L23P_T3U_N8 (io), W21 L18N_T2U_N11_AD2N (io), W22 VCCIO (power), W23 L13P_T2L_N0_GC_QBC (io), W24 L13N_T2L_N1_GC_QBC (io), W25 L14P_T2L_N2_GC (io), W26 L24N_T3U_N11 (io), W28 L21P_T3L_N4_AD8P (io), W29 L23N_T3U_N9 (io), Y21 T2U_N12 (io), Y22 T1U_N12 (io), Y23 L11P_T1U_N8_GC (io), Y25 L14N_T2L_N3_GC (io), Y26 L1P_T0L_N0_DBC (io), Y27 L1N_T0L_N1_DBC (io), Y28 L21N_T3L_N5_AD8N (io)
part F pins: AA29 L16P_T2U_N6_QBC_AD3P (io), AA30 VREF, AA32 L13P_T2L_N0_GC_QBC (io), AA33 T2U_N12 (io), AA34 L17P_T2U_N8_AD10P (io), AB29 L16N_T2U_N7_QBC_AD3N (io), AB30 L14P_T2L_N2_GC (io), AB31 L14N_T2L_N3_GC (io), AB32 L13N_T2L_N1_GC_QBC (io), AB33 VCCIO (power), AB34 L17N_T2U_N9_AD10N (io), AC28 L3P_T0L_N4_AD15P (io), AC29 T0U_N12_VRP (io), AC30 VCCIO (power), AC31 L12P_T1U_N10_GC (io), AC32 L12N_T1U_N11_GC (io), AC33 L18P_T2U_N10_AD2P (io), AC34 L15P_T2L_N4_AD11P (io), AD27 VCCIO (power), AD28 L3N_T0L_N5_AD15N (io), AD29 L5P_T0U_N8_AD14P (io), AD30 L11P_T1U_N8_GC (io), AD31 L11N_T1U_N9_GC (io), AD33 L18N_T2U_N11_AD2N (io), AD34 L15N_T2L_N5_AD11N (io), AE27 L1P_T0L_N0_DBC (io), AE28 L2P_T0L_N2 (io), AE30 L5N_T0U_N9_AD14N (io), AE31 T1U_N12 (io), AE32 L9P_T1L_N4_AD12P (io), AE33 L10P_T1U_N6_QBC_AD4P (io), AE34 VCCIO (power), AF27 L1N_T0L_N1_DBC (io), AF28 L2N_T0L_N3 (io), AF29 L4P_T0U_N6_DBC_AD7P (io), AF30 L6P_T0U_N10_AD6P (io), AF31 VCCIO (power), AF32 L9N_T1L_N5_AD12N (io), AF33 L8P_T1L_N2_AD5P (io), AF34 L10N_T1U_N7_QBC_AD4N (io), AG29 L4N_T0U_N7_DBC_AD7N (io), AG30 L6N_T0U_N11_AD6N (io), AG31 L7P_T1L_N0_QBC_AD13P (io), AG32 L7N_T1L_N1_QBC_AD13N (io), AG34 L8N_T1L_N3_AD5N (io), U34 L23P_T3U_N8 (io), V31 L24P_T3U_N10 (io), V32 T3U_N12 (io), V33 L21P_T3L_N4_AD8P (io), V34 L23N_T3U_N9 (io), W30 L20P_T3L_N2_AD1P (io), W31 L24N_T3U_N11 (io), W32 VCCIO (power), W33 L19P_T3L_N0_DBC_AD9P (io), W34 L21N_T3L_N5_AD8N (io), Y29 VCCIO (power), Y30 L20N_T3L_N3_AD1N (io), Y31 L22P_T3U_N6_DBC_AD0P (io), Y32 L22N_T3U_N7_DBC_AD0N (io), Y33 L19N_T3L_N1_DBC_AD9N (io)
part G pins: AD8 L17N_T2U_N9_AD10N (io), AD9 L17P_T2U_N8_AD10P (io), AD10 L16P_T2U_N6_QBC_AD3P (io), AD11 L10P_T1U_N6_QBC_AD4P (io), AD13 VREF, AE8 L15P_T2L_N4_AD11P (io), AE10 L16N_T2U_N7_QBC_AD3N (io), AE11 L10N_T1U_N7_QBC_AD4N (io), AE12 L9P_T1L_N4_AD12P (io), AE13 L7P_T1L_N0_QBC_AD13P (io), AF8 L15N_T2L_N5_AD11N (io), AF9 L14P_T2L_N2_GC (io), AF10 L13P_T2L_N0_GC_QBC (io), AF11 VCCIO (power), AF12 L9N_T1L_N5_AD12N (io), AF13 L7N_T1L_N1_QBC_AD13N (io), AG8 VCCIO (power), AG9 L14N_T2L_N3_GC (io), AG10 L13N_T2L_N1_GC_QBC (io), AG11 L12P_T1U_N10_GC (io), AG12 L11P_T1U_N8_GC (io), AH8 L18N_T2U_N11_AD2N (io), AH9 L18P_T2U_N10_AD2P (io), AH11 L12N_T1U_N11_GC (io), AH12 L11N_T1U_N9_GC (io), AH13 L8P_T1L_N2_AD5P (io), AJ8 L23N_T3U_N9 (io), AJ9 L23P_T3U_N8 (io), AJ10 T2U_N12 (io), AJ11 T1U_N12 (io), AJ12 VCCIO (power), AJ13 L8N_T1L_N3_AD5N (io), AK8 L24P_T3U_N10 (io), AK9 VCCIO (power), AK10 L21P_T3L_N4_AD8P (io), AK11 T0U_N12_VRP (io), AK12 L5P_T0U_N8_AD14P (io), AK13 L6P_T0U_N10_AD6P (io), AL8 L24N_T3U_N11 (io), AL9 L21N_T3L_N5_AD8N (io), AL10 L19P_T3L_N0_DBC_AD9P (io), AL12 L5N_T0U_N9_AD14N (io), AL13 L6N_T0U_N11_AD6N (io), AM9 T3U_N12 (io), AM10 L19N_T3L_N1_DBC_AD9N (io), AM11 L3P_T0L_N4_AD15P (io), AM12 L4P_T0U_N6_DBC_AD7P (io), AM13 VCCIO (power), AN8 L22P_T3U_N6_DBC_AD0P (io), AN9 L20P_T3L_N2_AD1P (io), AN10 VCCIO (power), AN11 L3N_T0L_N5_AD15N (io), AN12 L4N_T0U_N7_DBC_AD7N (io), AN13 L2P_T0L_N2 (io), AP8 L22N_T3U_N7_DBC_AD0N (io), AP9 L20N_T3L_N3_AD1N (io), AP10 L1N_T0L_N1_DBC (io), AP11 L1P_T0L_N0_DBC (io), AP13 L2N_T0L_N3 (io)
part H pins: G25 L2P_T0L_N2_FOE_B (io), G26 L2N_T0L_N3_FWE_FCS2_ (io), G27 L1N_T0L_N1_DBC_RS1 (io), H23 T0U_N12_A28_VRP (io), H24 L6N_T0U_N11_AD6N_A21 (io), H25 VCCIO (power), H26 L5N_T0U_N9_AD14N_A23 (io), H27 L1P_T0L_N0_DBC_RS0 (io), J21 VREF, J22 VCCIO (power), J23 L6P_T0U_N10_AD6P_A20 (io), J24 L4P_T0U_N6_DBC_AD7P_ (io), J25 L4N_T0U_N7_DBC_AD7N_ (io), J26 L5P_T0U_N8_AD14P_A22 (io), K20 L24P_T3U_N10_EMCCLK (io), K21 L24N_T3U_N11_DOUT_CS (io), K22 T3U_N12_PERSTN0 (io), K23 L10N_T1U_N7_QBC_AD4N (io), K25 L9N_T1L_N5_AD12N_A15 (io), K26 L3P_T0L_N4_AD15P_A26 (io), K27 L3N_T0L_N5_AD15N_A27 (io), L20 L22N_T3U_N7_DBC_AD0N (io), L22 L10P_T1U_N6_QBC_AD4P (io), L23 L8P_T1L_N2_AD5P_A16 (io), L24 L8N_T1L_N3_AD5N_A17 (io), L25 L9P_T1L_N4_AD12P_A14 (io), L26 VCCIO (power), L27 L7N_T1L_N1_QBC_AD13N (io), M20 L22P_T3U_N6_DBC_AD0P (io), M21 L23N_T3U_N9_I2C_SDA (io), M22 L19N_T3L_N1_DBC_AD9N (io), M23 VCCIO (power), M24 L12N_T1U_N11_GC_A09_ (io), M25 L11P_T1U_N8_GC_A10_D (io), M26 L11N_T1U_N9_GC_A11_D (io), M27 L7P_T1L_N0_QBC_AD13P (io), N20 VCCIO (power), N21 L23P_T3U_N8_I2C_SCLK (io), N22 L19P_T3L_N0_DBC_AD9P (io), N23 T1U_N12_PERSTN1 (io), N24 L12P_T1U_N10_GC_A08_ (io), N26 L13N_T2L_N1_GC_QBC_A (io), N27 T2U_N12_CSI_ADV_B (io), P20 L20P_T3L_N2_AD1P_D08 (io), P21 L20N_T3L_N3_AD1N_D09 (io), P23 L18N_T2U_N11_AD2N_D1 (io), P24 L14P_T2L_N2_GC_A04_D (io), P25 L14N_T2L_N3_GC_A05_D (io), P26 L13P_T2L_N0_GC_QBC_A (io), P27 VCCIO (power), R21 L21P_T3L_N4_AD8P_D06 (io), R22 L21N_T3L_N5_AD8N_D07 (io), R23 L18P_T2U_N10_AD2P_D1 (io), R24 VCCIO (power), R25 L17P_T2U_N8_AD10P_D1 (io), R26 L17N_T2U_N9_AD10N_D1 (io), R27 L15N_T2L_N5_AD11N_A0 (io), T24 L16P_T2U_N6_QBC_AD3P (io), T25 L16N_T2U_N7_QBC_AD3N (io), T27 L15P_T2L_N4_AD11P_A0 (io)
part I pins: A8 T0U_N12_VRP (io), A9 L2N_T0L_N3 (io), A10 L4N_T0U_N7_DBC_AD7N (io), A12 L23N_T3U_N9 (io), A13 L23P_T3U_N8 (io), B9 L2P_T0L_N2 (io), B10 L4P_T0U_N6_DBC_AD7P (io), B11 L21N_T3L_N5_AD8N (io), B12 L20N_T3L_N3_AD1N (io), B13 VCCIO (power), C8 L3N_T0L_N5_AD15N (io), C9 L5N_T0U_N9_AD14N (io), C10 VCCIO (power), C11 L21P_T3L_N4_AD8P (io), C12 L20P_T3L_N2_AD1P (io), C13 L24N_T3U_N11 (io), D8 L3P_T0L_N4_AD15P (io), D9 L5P_T0U_N8_AD14P (io), D10 L6N_T0U_N11_AD6N (io), D11 L19N_T3L_N1_DBC_AD9N (io), D13 L24P_T3U_N10 (io), E8 L1N_T0L_N1_DBC (io), E10 L6P_T0U_N10_AD6P (io), E11 L19P_T3L_N0_DBC_AD9P (io), E12 T3U_N12 (io), E13 L22N_T3U_N7_DBC_AD0N (io), F8 L1P_T0L_N0_DBC (io), F9 L11N_T1U_N9_GC (io), F10 L12N_T1U_N11_GC (io), F11 VCCIO (power), F12 T2U_N12 (io), F13 L22P_T3U_N6_DBC_AD0P (io), G8 VCCIO (power), G9 L11P_T1U_N8_GC (io), G10 L12P_T1U_N10_GC (io), G11 L13N_T2L_N1_GC_QBC (io), G12 L14N_T2L_N3_GC (io), H8 L9N_T1L_N5_AD12N (io), H9 L8N_T1L_N3_AD5N (io), H11 L13P_T2L_N0_GC_QBC (io), H12 L14P_T2L_N2_GC (io), H13 L18N_T2U_N11_AD2N (io), J8 L9P_T1L_N4_AD12P (io), J9 L8P_T1L_N2_AD5P (io), J10 L10N_T1U_N7_QBC_AD4N (io), J11 L15N_T2L_N5_AD11N (io), J12 VCCIO (power), J13 L18P_T2U_N10_AD2P (io), K8 L7N_T1L_N1_QBC_AD13N (io), K9 VCCIO (power), K10 L10P_T1U_N6_QBC_AD4P (io), K11 L15P_T2L_N4_AD11P (io), K12 L17N_T2U_N9_AD10N (io), K13 L16N_T2U_N7_QBC_AD3N (io), L8 L7P_T1L_N0_QBC_AD13P (io), L9 T1U_N12 (io), L10 VREF, L12 L17P_T2U_N8_AD10P (io), L13 L16P_T2U_N6_QBC_AD3P (io)
part J pins: A20 L17N_T2U_N9_AD10N (io), A22 T2U_N12 (io), A23 T1U_N12 (io), A24 L10N_T1U_N7_QBC_AD4N (io), A25 L8N_T1L_N3_AD5N (io), A26 VCCIO (power), A27 L6P_T0U_N10_AD6P (io), A28 L6N_T0U_N11_AD6N (io), A29 L4N_T0U_N7_DBC_AD7N (io), B20 L17P_T2U_N8_AD10P (io), B21 L15P_T2L_N4_AD11P (io), B22 L15N_T2L_N5_AD11N (io), B23 VCCIO (power), B24 L10P_T1U_N6_QBC_AD4P (io), B25 L8P_T1L_N2_AD5P (io), B26 L9N_T1L_N5_AD12N (io), B27 L2N_T0L_N3 (io), B29 L4P_T0U_N6_DBC_AD7P (io), C20 VCCIO (power), C21 L16P_T2U_N6_QBC_AD3P (io), C22 L16N_T2U_N7_QBC_AD3N (io), C23 L13N_T2L_N1_GC_QBC (io), C24 L12N_T1U_N11_GC (io), C26 L9P_T1L_N4_AD12P (io), C27 L2P_T0L_N2 (io), C28 L5N_T0U_N9_AD14N (io), C29 T0U_N12_VRP (io), D20 L18P_T2U_N10_AD2P (io), D21 L18N_T2U_N11_AD2N (io), D23 L13P_T2L_N0_GC_QBC (io), D24 L12P_T1U_N10_GC (io), D25 L11N_T1U_N9_GC (io), D26 L7N_T1L_N1_QBC_AD13N (io), D27 VCCIO (power), D28 L5P_T0U_N8_AD14P (io), D29 L3N_T0L_N5_AD15N (io), E20 L20P_T3L_N2_AD1P (io), E21 L20N_T3L_N3_AD1N (io), E22 L14P_T2L_N2_GC (io), E23 L14N_T2L_N3_GC (io), E24 VCCIO (power), E25 L11P_T1U_N8_GC (io), E26 L7P_T1L_N0_QBC_AD13P (io), E27 L1N_T0L_N1_DBC (io), E28 L3P_T0L_N4_AD15P (io), F20 L22N_T3U_N7_DBC_AD0N (io), F21 VCCIO (power), F22 L23N_T3U_N9 (io), F23 L21P_T3L_N4_AD8P (io), F24 L21N_T3L_N5_AD8N (io), F25 L19N_T3L_N1_DBC_AD9N (io), F27 L1P_T0L_N0_DBC (io), G20 L22P_T3U_N6_DBC_AD0P (io), G21 L24N_T3U_N11 (io), G22 L23P_T3U_N8 (io), G24 L19P_T3L_N0_DBC_AD9P (io), H21 L24P_T3U_N10 (io), H22 T3U_N12 (io), J20 VREF
part K pins: A14 L1N_T0L_N1_DBC (io), A15 L3N_T0L_N5_AD15N (io), A16 VCCIO (power), A17 T0U_N12_VRP (io), A18 L2N_T0L_N3 (io), A19 L2P_T0L_N2 (io), B14 L1P_T0L_N0_DBC (io), B15 L3P_T0L_N4_AD15P (io), B16 L5N_T0U_N9_AD14N (io), B17 L5P_T0U_N8_AD14P (io), B19 L4N_T0U_N7_DBC_AD7N (io), C14 L7N_T1L_N1_QBC_AD13N (io), C16 T1U_N12 (io), C17 L6N_T0U_N11_AD6N (io), C18 L6P_T0U_N10_AD6P (io), C19 L4P_T0U_N6_DBC_AD7P (io), D14 L7P_T1L_N0_QBC_AD13P (io), D15 L8N_T1L_N3_AD5N (io), D16 L11N_T1U_N9_GC (io), D17 VCCIO (power), D18 L10N_T1U_N7_QBC_AD4N (io), D19 L10P_T1U_N6_QBC_AD4P (io), E14 VCCIO (power), E15 L8P_T1L_N2_AD5P (io), E16 L11P_T1U_N8_GC (io), E17 L12N_T1U_N11_GC (io), E18 L12P_T1U_N10_GC (io), F14 L9N_T1L_N5_AD12N (io), F15 L9P_T1L_N4_AD12P (io), F17 L14N_T2L_N3_GC (io), F18 L14P_T2L_N2_GC (io), F19 L16N_T2U_N7_QBC_AD3N (io), G14 L15N_T2L_N5_AD11N (io), G15 L15P_T2L_N4_AD11P (io), G16 L13N_T2L_N1_GC_QBC (io), G17 L13P_T2L_N0_GC_QBC (io), G18 VCCIO (power), G19 L16P_T2U_N6_QBC_AD3P (io), H14 T2U_N12 (io), H15 VCCIO (power), H16 L17N_T2U_N9_AD10N (io), H17 L17P_T2U_N8_AD10P (io), H18 L18N_T2U_N11_AD2N (io), H19 L18P_T2U_N10_AD2P (io), J14 L19N_T3L_N1_DBC_AD9N (io), J15 L19P_T3L_N0_DBC_AD9P (io), J16 L23N_T3U_N9 (io), J18 L22N_T3U_N7_DBC_AD0N (io), J19 L22P_T3U_N6_DBC_AD0P (io), K15 L21N_T3L_N5_AD8N (io), K16 L23P_T3U_N8 (io), K17 L20N_T3L_N3_AD1N (io), K18 L20P_T3L_N2_AD1P (io), K19 VCCIO (power), L14 VREF, L15 L21P_T3L_N4_AD8P (io), L16 VCCIO (power), L17 T3U_N12 (io), L18 L24N_T3U_N11 (io), L19 L24P_T3U_N10 (io)
part L pins: B31 TXP3 (out), B32 TXN3 (out), C33 RXP3 (in), C34 RXN3 (in), D31 TXP2 (out), D32 TXN2 (out), E33 RXP2 (in), E34 RXN2 (in), F31 RXP1 (in), F32 RXN1 (in), G29 TXP1 (out), G30 TXN1 (out), G33 RXP0 (in), G34 RXN0 (in), H31 TXP0 (out), H32 TXN0 (out), J29 REFCLK1P (in), J30 REFCLK1N (in), J33 RXP3 (in), J34 RXN3 (in), K31 TXP3 (out), K32 TXN3 (out), L29 REFCLK0P (in), L30 REFCLK0N (in), L33 RXP2 (in), L34 RXN2 (in), M31 TXP2 (out), M32 TXN2 (out), N29 REFCLK1P (in), N30 REFCLK1N (in), N33 RXP1 (in), N34 RXN1 (in), P31 TXP1 (out), P32 TXN1 (out), R29 REFCLK0P (in), R30 REFCLK0N (in), R33 RXP0 (in), R34 RXN0 (in), T31 TXP0 (out), T32 TXN0 (out)
part M pins: AA3 TXN0 (out), AA4 TXP0 (out), AB1 RXN3 (in), AB2 RXP3 (in), AB5 REFCLK0N (in), AB6 REFCLK0P (in), AC3 TXN3 (out), AC4 TXP3 (out), AD1 RXN2 (in), AD2 RXP2 (in), AD5 REFCLK1N (in), AD6 REFCLK1P (in), AE3 TXN2 (out), AE4 TXP2 (out), AF1 RXN1 (in), AF2 RXP1 (in), AF5 REFCLK0N (in), AF6 REFCLK0P (in), AG3 TXN1 (out), AG4 TXP1 (out), AH1 RXN0 (in), AH2 RXP0 (in), AH5 TXN0 (out), AH6 TXP0 (out), AJ3 RXN3 (in), AJ4 RXP3 (in), AK1 RXN2 (in), AK2 RXP2 (in), AK5 TXN3 (out), AK6 TXP3 (out), AL3 TXN2 (out), AL4 TXP2 (out), AM1 RXN1 (in), AM2 RXP1 (in), AM5 TXN1 (out), AM6 TXP1 (out), AN3 TXN0 (out), AN4 TXP0 (out), AP1 RXN0 (in), AP2 RXP0 (in), P1 RXN3 (in), P2 RXP3 (in), R3 TXN3 (out), R4 TXP3 (out), T1 RXN2 (in), T2 RXP2 (in), T5 REFCLK1N (in), T6 REFCLK1P (in), U3 TXN2 (out), U4 TXP2 (out), V1 RXN1 (in), V2 RXP1 (in), V5 REFCLK0N (in), V6 REFCLK0P (in), W3 TXN1 (out), W4 TXP1 (out), Y1 RXN0 (in), Y2 RXP0 (in), Y5 REFCLK1N (in), Y6 REFCLK1P (in)
part N pins: A3 RXN3 (in), A4 RXP3 (in), B1 RXN2 (in), B2 RXP2 (in), B5 TXN3 (out), B6 TXP3 (out), C3 TXN2 (out), C4 TXP2 (out), D1 RXN1 (in), D2 RXP1 (in), D5 TXN1 (out), D6 TXP1 (out), E3 RXN0 (in), E4 RXP0 (in), F1 RXN3 (in), F2 RXP3 (in), F5 TXN0 (out), F6 TXP0 (out), G3 TXN3 (out), G4 TXP3 (out), H1 RXN2 (in), H2 RXP2 (in), H5 REFCLK1N (in), H6 REFCLK1P (in), J3 TXN2 (out), J4 TXP2 (out), K1 RXN1 (in), K2 RXP1 (in), K5 REFCLK0N (in), K6 REFCLK0P (in), L3 TXN1 (out), L4 TXP1 (out), M1 RXN0 (in), M2 RXP0 (in), M5 REFCLK1N (in), M6 REFCLK1P (in), N3 TXN0 (out), N4 TXP0 (out), P5 REFCLK0N (in), P6 REFCLK0P (in)
part O pins: AA8 VCCAUX (power), AA10 VCCINT (power), AA12 VCCINT (power), AA14 VCCINT (power), AA16 VCCINT (power), AA18 VCCBRAM (power), AB11 VCCINT (power), AB13 VCCINT (power), AB15 VCCINT (power), AB17 VCCBRAM (power), AB19 VCCAUX_IO (power), AC8 VCCAUX (power), AC10 VCCINT (power), AC12 VCCINT (power), AC14 VCCINT (power), AC16 VCCINT (power), AC18 VCCAUX_IO (power), M9 VCCINT (power), M11 VCCINT (power), M13 VCCINT (power), M15 VCCINT (power), M17 VCCINT_IO (power), M19 VCCAUX_IO (power), N8 VCCINT (power), N10 VCCINT (power), N12 VCCINT (power), N14 VCCINT (power), N16 VCCINT (power), N18 VCCAUX_IO (power), P9 VCCINT (power), P11 VCCINT (power), P13 VCCINT (power), P15 VCCINT (power), P17 VCCINT_IO (power), P19 VCCAUX_IO (power), R8 VCCINT (power), R10 VCCINT (power), R12 VCCINT (power), R14 VCCINT (power), R16 VCCINT (power), R18 VCCINT_IO (power), R20 VCCAUX_IO (power), T9 VCCINT (power), T11 VCCINT (power), T13 VCCINT (power), T15 VCCINT (power), T17 VCCINT (power), T19 VCCAUX_IO (power), U8 VCCAUX (power), U10 VCCINT (power), U14 VCCINT (power), U16 VCCINT (power), U18 VCCINT_IO (power), U20 VCCAUX_IO (power), V13 VCCINT (power), V15 VCCINT (power), V17 VCCBRAM (power), V19 VCCAUX_IO (power), W8 VCCAUX (power), W10 VCCINT (power), W14 VCCINT (power), W16 VCCINT (power), W18 VCCINT_IO (power), W20 VCCAUX_IO (power), Y13 VCCINT (power), Y15 VCCINT (power), Y17 VCCBRAM (power), Y19 VCCAUX_IO (power)
part P pins: A1 GND (power), A2 GND (power), A5 GND (power), A6 GND (power), A7 GND (power), A11 GND (power), A21 GND (power), A30 GND (power), A31 GND (power), A32 GND (power), B3 GND (power), B4 GND (power), B7 GND (power), B8 GND (power), B18 GND (power), B28 GND (power), B30 GND (power), B33 GND (power), B34 GND (power), C1 GND (power), C5 GND (power), C7 GND (power), C15 GND (power), C25 GND (power), C30 GND (power), C31 GND (power), D4 GND (power), D7 GND (power), D12 GND (power), D22 GND (power), D30 GND (power), D34 GND (power), E1 GND (power), E2 GND (power), E5 GND (power), E7 GND (power), E9 GND (power), E19 GND (power), E29 GND (power), E30 GND (power), E32 GND (power), F3 GND (power), F4 GND (power), F7 GND (power), F16 GND (power), F26 GND (power), F28 GND (power), F29 GND (power), F33 GND (power), F34 GND (power), G1 GND (power), G5 GND (power), G7 GND (power), G13 GND (power), G23 GND (power), G28 GND (power), G31 GND (power), H4 GND (power), H7 GND (power), H10 GND (power), H20 GND (power), H28 GND (power), H30 GND (power), H34 GND (power), J1 GND (power), J2 GND (power), J5 GND (power), J7 GND (power), J17 GND (power), J27 GND (power), J28 GND (power), J32 GND (power), K3 GND (power), K4 GND (power), K14 GND (power), K24 GND (power), K28 GND (power), K30 GND (power), K34 GND (power), L1 GND (power), L5 GND (power), L11 GND (power), L21 GND (power), L28 GND (power), L31 GND (power), M4 GND (power), M8 GND (power), M10 GND (power), M12 GND (power), M14 GND (power), M16 GND (power), M18 GND (power), M28 GND (power), M30 GND (power), M33 GND (power), M34 GND (power), N1 GND (power), N2 GND (power), N5 GND (power), N9 GND (power), N11 GND (power), N13 GND (power), N15 GND (power), N17 GND (power), N19 GND (power), N25 GND (power), N28 GND (power), N32 GND (power), P3 GND (power), P4 GND (power), P10 GND (power), P12 GND (power), P14 GND (power), P16 GND (power), P18 GND (power), P22 GND (power), P28 GND (power), P30 GND (power), P34 GND (power), R1 GND (power), R5 GND (power), R9 GND (power), R11 GND (power), R13 GND (power), R15 GND (power), R17 GND (power), R19 GND (power), R28 GND (power), R31 GND (power), T4 GND (power), T8 GND (power), T10 GND (power), T12 GND (power), T14 GND (power), T16 GND (power)
part Q pins: AA1 GND (power), AA2 GND (power), AA5 GND (power), AA11 GND (power), AA13 GND (power), AA15 GND (power), AA17 GND (power), AA19 GND (power), AA21 GND (power), AA31 GND (power), AB3 GND (power), AB4 GND (power), AB8 GND (power), AB10 GND (power), AB12 GND (power), AB14 GND (power), AB16 GND (power), AB18 GND (power), AB28 GND (power), AC1 GND (power), AC5 GND (power), AC11 GND (power), AC13 GND (power), AC15 GND (power), AC17 GND (power), AC19 GND (power), AC25 GND (power), AD4 GND (power), AD12 GND (power), AD22 GND (power), AD32 GND (power), AE1 GND (power), AE2 GND (power), AE5 GND (power), AE7 GND (power), AE9 GND (power), AE19 GND (power), AE29 GND (power), AF3 GND (power), AF4 GND (power), AF7 GND (power), AF16 GND (power), AF26 GND (power), AG1 GND (power), AG5 GND (power), AG7 GND (power), AG13 GND (power), AG23 GND (power), AG33 GND (power), AH4 GND (power), AH7 GND (power), AH10 GND (power), AH20 GND (power), AH30 GND (power), AJ1 GND (power), AJ2 GND (power), AJ5 GND (power), AJ7 GND (power), AJ17 GND (power), AJ27 GND (power), AK3 GND (power), AK4 GND (power), AK7 GND (power), AK14 GND (power), AK24 GND (power), AK34 GND (power), AL1 GND (power), AL5 GND (power), AL7 GND (power), AL11 GND (power), AL21 GND (power), AL31 GND (power), AM4 GND (power), AM7 GND (power), AM8 GND (power), AM18 GND (power), AM28 GND (power), AN1 GND (power), AN2 GND (power), AN5 GND (power), AN7 GND (power), AN15 GND (power), AN25 GND (power), AP3 GND (power), AP4 GND (power), AP7 GND (power), AP12 GND (power), AP22 GND (power), AP32 GND (power), P8 GND (power), T18 GND (power), T20 GND (power), T26 GND (power), T28 GND (power), T29 GND (power), T30 GND (power), T33 GND (power), T34 GND (power), U1 GND (power), U2 GND (power), U5 GND (power), U13 GND (power), U15 GND (power), U17 GND (power), U19 GND (power), U23 GND (power), U30 GND (power), U31 GND (power), U32 GND (power), U33 GND (power), V3 GND (power), V4 GND (power), V8 GND (power), V10 GND (power), V14 GND (power), V16 GND (power), V18 GND (power), V20 GND (power), V30 GND (power), W1 GND (power), W5 GND (power), W13 GND (power), W15 GND (power), W17 GND (power), W19 GND (power), W27 GND (power), Y4 GND (power), Y8 GND (power), Y10 GND (power), Y14 GND (power), Y16 GND (power), Y18 GND (power), Y20 GND (power), Y24 GND (power), Y34 GND (power)
part R pins: A33 AVTTRCAL_L (power), A34 RREF_L, AA6 MGTVCCAUX_R (power), AC2 MGTAVTT_R (power), AC6 MGTAVCC_R (power), AD3 MGTAVTT_R (power), AE6 MGTAVCC_R (power), AG2 MGTAVTT_R (power), AG6 MGTAVCC_R (power), AH3 MGTAVTT_R (power), AJ6 MGTAVCC_R (power), AL2 MGTAVTT_R (power), AL6 MGTAVCC_R (power), AM3 MGTAVTT_R (power), AN6 MGTAVCC_R (power), AP5 RREF_R, AP6 AVTTRCAL_R (power), C2 MGTAVTT_R (power), C6 MGTAVCC_R (power), C32 MGTAVTT_L (power), D3 MGTAVTT_R (power), D33 MGTAVTT_L (power), E6 MGTAVCC_R (power), E31 MGTAVCC_L (power), F30 MGTAVCC_L (power), G2 MGTAVTT_R (power), G6 MGTAVCC_R (power), G32 MGTAVTT_L (power), H3 MGTAVTT_R (power), H29 MGTAVCC_L (power), H33 MGTAVTT_L (power), J6 MGTAVCC_R (power), J31 MGTAVCC_L (power), K29 MGTVCCAUX_L (power), K33 MGTAVTT_L (power), L2 MGTAVTT_R (power), L6 MGTAVCC_R (power), L32 MGTAVTT_L (power), M3 MGTAVTT_R (power), M29 MGTVCCAUX_L (power), N6 MGTAVCC_R (power), N31 MGTAVCC_L (power), P29 MGTAVCC_L (power), P33 MGTAVTT_L (power), R2 MGTAVTT_R (power), R6 MGTVCCAUX_R (power), R32 MGTAVTT_L (power), T3 MGTAVTT_R (power), U6 MGTAVCC_R (power), W2 MGTAVTT_R (power), W6 MGTAVCC_R (power), Y3 MGTAVTT_R (power)
part A text: PLM; Bank 0
part B text: PLM; Bank 44
part C text: PLM; Bank 45
part D text: PLM; Bank 46
part E text: PLM; Bank 47
part F text: PLM; Bank 48
part G text: PLM; Bank 64
part H text: PLM; Bank 65
part I text: PLM; Bank 66
part J text: PLM; Bank 67
part K text: PLM; Bank 68
part L text: PLM; Bank 127; Bank 128
part M text: PLM; Bank 224; Bank 225; Bank 226
part N text: PLM; Bank 227; Bank 228
part O text: PLM
part P text: PLM
part Q text: PLM
part R text: PLM